# Altium schematic symbol library TIP142.SchLib: 1 symbol
Pins are listed as number, name and electrical type; pins without a type are passive.

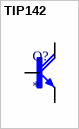
[diagram p0: symbol TIP142]

## TIP142
designator Q?
NPN DARLINGTON TRANSISTOR; MP: TIP142; MF: {'manufacturer': u'ON Semiconductor'}; Availability: Unavailable; Value: *; Price: None; Package: None
footprint SOT93
pins: B, C, E